# Altium footprint library 2020-03-29_19-02-12.PcbLib: 3 footprints
Each footprint in its own frame and in the unit in brackets; x right, y up, seen from the top. Pads: shape width x height; smd on the part's side, far side on the other; paste and mask are expansions set on the pad; w line width, h text height; cw(c..) or ccw(c..) is an arc to the next point about the centre after c.
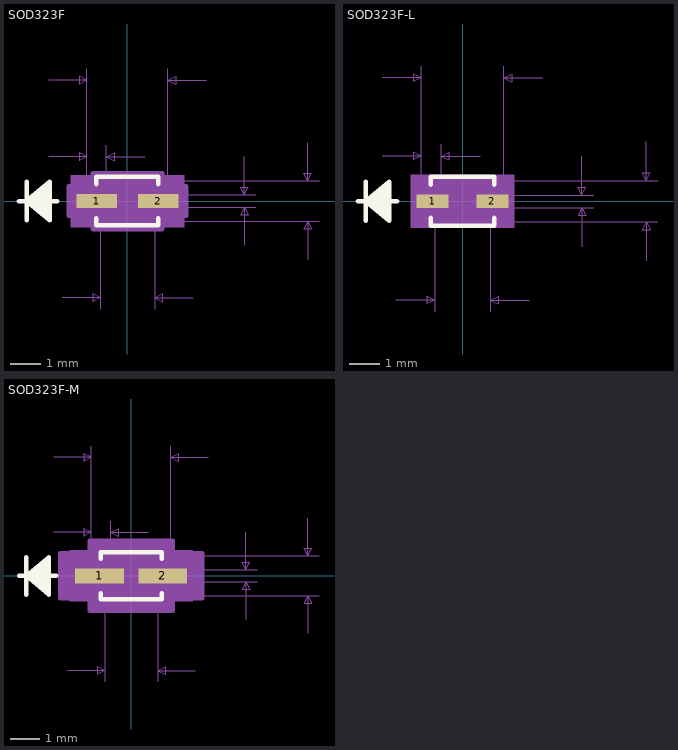
[diagram p0: the footprints below, top view; thin cyan lines are the x and y axes]

## SOD323F [mm]
pads (2):
  rect 1.348x0.466 smd paste+0 mask+0: 1(-1.022,0) 2(1.022,0)
Top Overlay:
  lines w0.152: -3.601,0 -2.331,0 ; -3.347,-0.635 -3.347,0.635 ; -2.585,-0.508 -3.347,0 ; -2.585,-0.381 -3.347,0 ; -2.585,-0.254 -3.347,0 ; -2.585,-0.127 -3.347,0 ; -2.585,0.127 -3.347,0 ; -2.585,0.254 -3.347,0 ; -2.585,0.381 -3.347,0 ; -2.585,0.508 -3.347,0 ; -1.029,-0.566 -1.029,-0.8 1.029,-0.8 1.029,-0.566 ; -1.029,0.566 -1.029,0.8 1.029,0.8 1.029,0.566 ; -3.347,0 -2.585,0.635 -2.585,-0.635 -3.347,0
Mechanical 5:
  region: 1.887,-0.864 -1.887,-0.864 -1.887,0.864 1.887,0.864
Mechanical 7:
  lines w0.025: -2.616,1.473 -1.346,1.473 ; -2.616,4.013 -1.346,4.013 ; -2.172,-3.213 -0.902,-3.213 ; -1.346,1.854 -1.346,0 -1.346,4.394 ; -0.902,-3.594 -0.902,0 ; -0.699,0 -0.699,1.854 ; 0,-0.673 6.363,-0.673 ; 0,0.673 6.363,0.673 ; 0.572,1.473 -0.699,1.473 ; 0.902,-3.594 0.902,0 ; 1.346,-0.203 4.267,-0.203 ; 1.346,0 1.346,4.394 ; 1.346,0.203 4.267,0.203 ; 2.172,-3.213 0.902,-3.213 ; 2.616,4.013 1.346,4.013 ; 3.886,-1.473 3.886,-0.203 ; 3.886,1.473 3.886,0.203 ; 5.982,-1.943 5.982,-0.673 ; 5.982,1.943 5.982,0.673 ; -1.346,1.473 -1.6,1.6 -1.6,1.346 -1.346,1.473 ; -1.346,4.013 -1.6,4.14 -1.6,3.886 -1.346,4.013 ; -0.902,-3.213 -1.156,-3.086 -1.156,-3.34 -0.902,-3.213 ; -0.699,1.473 -0.445,1.6 -0.445,1.346 -0.699,1.473 ; 0.902,-3.213 1.156,-3.086 1.156,-3.34 0.902,-3.213 ; 1.346,4.013 1.6,4.14 1.6,3.886 1.346,4.013 ; 3.886,-0.203 3.759,-0.457 4.013,-0.457 3.886,-0.203 ; 3.886,0.203 3.759,0.457 4.013,0.457 3.886,0.203 ; 5.982,-0.673 5.855,-0.927 6.109,-0.927 5.982,-0.673 ; 5.982,0.673 5.855,0.927 6.109,0.927 5.982,0.673
  text "Default Padstyle: r135_47" at -7.938,-8.488 h1.27
  text "Alt 1 Padstyle: b152_229h76" at -8.572,-10.393 h1.27
  text "Alt 2 Padstyle: b229_152h76" at -8.572,-12.298 h1.27
  text "0.106in/2.692mm" at -2.381,4.521 h0.64
  text "0.018in/0.457mm" at -3.404,1.981 h0.64
  text "0.016in/0.406mm" at 4.394,-0.318 h0.64
  text "0.053in/1.346mm" at 6.49,-0.318 h0.64
  text "0.071in/1.803mm" at -2.381,-4.356 h0.64
Mechanical 13:
  lines w0.025: -3.601,0 -2.331,0 ; -3.347,-0.635 -3.347,0.635 ; -2.585,-0.508 -3.347,0 ; -2.585,-0.381 -3.347,0 ; -2.585,-0.254 -3.347,0 ; -2.585,-0.127 -3.347,0 ; -2.585,0.127 -3.347,0 ; -2.585,0.254 -3.347,0 ; -2.585,0.381 -3.347,0 ; -2.585,0.508 -3.347,0 ; -0.902,-0.337 -0.565,-0.673 ; -0.902,0.337 -0.565,0.673 ; -3.347,0 -2.585,0.635 -2.585,-0.635 -3.347,0 ; -1.346,-0.203 -1.346,0.203 -0.902,0.203 -0.902,-0.203 -1.346,-0.203 ; -0.902,-0.673 0.902,-0.673 0.902,0.673 -0.902,0.673 -0.902,-0.673 ; 0.902,-0.203 0.902,0.203 1.346,0.203 1.346,-0.203 0.902,-0.203
Mechanical 15:
  region: -1.156,-0.487 -1.95,-0.487 -1.95,0.487 -1.156,0.487 -1.156,0.927 1.156,0.927 1.156,0.487 1.95,0.487 1.95,-0.487 1.156,-0.487 1.156,-0.927 -1.156,-0.927
  lines w0.152: -1.95,-0.487 -1.95,0.487 -1.156,0.487 -1.156,0.927 1.156,0.927 1.156,0.487 1.95,0.487 1.95,-0.487 1.156,-0.487 1.156,-0.927 -1.156,-0.927 -1.156,-0.487 -1.95,-0.487
3D body: height 0.25, standoff 0, extent 0,0 0.254,0.254

## SOD323F-L [mm]
pads (2):
  rect 1.048x0.426 smd paste+0 mask+0: 1(-0.972,0) 2(0.972,0)
Top Overlay:
  lines w0.152: -3.401,0 -2.131,0 ; -3.147,-0.635 -3.147,0.635 ; -2.385,-0.508 -3.147,0 ; -2.385,-0.381 -3.147,0 ; -2.385,-0.254 -3.147,0 ; -2.385,-0.127 -3.147,0 ; -2.385,0.127 -3.147,0 ; -2.385,0.254 -3.147,0 ; -2.385,0.381 -3.147,0 ; -2.385,0.508 -3.147,0 ; -1.029,-0.546 -1.029,-0.8 1.029,-0.8 1.029,-0.546 ; -1.029,0.546 -1.029,0.8 1.029,0.8 1.029,0.546 ; -3.147,0 -2.385,0.635 -2.385,-0.635 -3.147,0
Mechanical 5:
  region: 1.687,-0.864 -1.687,-0.864 -1.687,0.864 1.687,0.864
Mechanical 7:
  lines w0.025: -2.616,1.473 -1.346,1.473 ; -2.616,4.013 -1.346,4.013 ; -2.172,-3.213 -0.902,-3.213 ; -1.346,1.854 -1.346,0 -1.346,4.394 ; -0.902,-3.594 -0.902,0 ; -0.699,0 -0.699,1.854 ; 0,-0.673 6.363,-0.673 ; 0,0.673 6.363,0.673 ; 0.572,1.473 -0.699,1.473 ; 0.902,-3.594 0.902,0 ; 1.346,-0.203 4.267,-0.203 ; 1.346,0 1.346,4.394 ; 1.346,0.203 4.267,0.203 ; 2.172,-3.213 0.902,-3.213 ; 2.616,4.013 1.346,4.013 ; 3.886,-1.473 3.886,-0.203 ; 3.886,1.473 3.886,0.203 ; 5.982,-1.943 5.982,-0.673 ; 5.982,1.943 5.982,0.673 ; -1.346,1.473 -1.6,1.6 -1.6,1.346 -1.346,1.473 ; -1.346,4.013 -1.6,4.14 -1.6,3.886 -1.346,4.013 ; -0.902,-3.213 -1.156,-3.086 -1.156,-3.34 -0.902,-3.213 ; -0.699,1.473 -0.445,1.6 -0.445,1.346 -0.699,1.473 ; 0.902,-3.213 1.156,-3.086 1.156,-3.34 0.902,-3.213 ; 1.346,4.013 1.6,4.14 1.6,3.886 1.346,4.013 ; 3.886,-0.203 3.759,-0.457 4.013,-0.457 3.886,-0.203 ; 3.886,0.203 3.759,0.457 4.013,0.457 3.886,0.203 ; 5.982,-0.673 5.855,-0.927 6.109,-0.927 5.982,-0.673 ; 5.982,0.673 5.855,0.927 6.109,0.927 5.982,0.673
  text "Default Padstyle: r105_43" at -7.938,-8.468 h1.27
  text "Alt 1 Padstyle: b152_229h76" at -8.572,-10.373 h1.27
  text "Alt 2 Padstyle: b229_152h76" at -8.572,-12.278 h1.27
  text "0.106in/2.692mm" at -2.381,4.521 h0.64
  text "0.018in/0.457mm" at -3.404,1.981 h0.64
  text "0.016in/0.406mm" at 4.394,-0.318 h0.64
  text "0.053in/1.346mm" at 6.49,-0.318 h0.64
  text "0.071in/1.803mm" at -2.381,-4.356 h0.64
Mechanical 13:
  lines w0.025: -3.401,0 -2.131,0 ; -3.147,-0.635 -3.147,0.635 ; -2.385,-0.508 -3.147,0 ; -2.385,-0.381 -3.147,0 ; -2.385,-0.254 -3.147,0 ; -2.385,-0.127 -3.147,0 ; -2.385,0.127 -3.147,0 ; -2.385,0.254 -3.147,0 ; -2.385,0.381 -3.147,0 ; -2.385,0.508 -3.147,0 ; -0.902,-0.337 -0.565,-0.673 ; -0.902,0.337 -0.565,0.673 ; -3.147,0 -2.385,0.635 -2.385,-0.635 -3.147,0 ; -1.346,-0.203 -1.346,0.203 -0.902,0.203 -0.902,-0.203 -1.346,-0.203 ; -0.902,-0.673 0.902,-0.673 0.902,0.673 -0.902,0.673 -0.902,-0.673 ; 0.902,-0.203 0.902,0.203 1.346,0.203 1.346,-0.203 0.902,-0.203
Mechanical 15:
  region: -1.003,-0.315 -1.598,-0.315 -1.598,0.315 -1.003,0.315 -1.003,0.775 1.003,0.775 1.003,0.315 1.598,0.315 1.598,-0.315 1.003,-0.315 1.003,-0.775 -1.003,-0.775
  lines w0.152: -1.598,-0.315 -1.598,0.315 -1.003,0.315 -1.003,0.775 1.003,0.775 1.003,0.315 1.598,0.315 1.598,-0.315 1.003,-0.315 1.003,-0.775 -1.003,-0.775 -1.003,-0.315 -1.598,-0.315
3D body: height 0.25, standoff 0, extent 0,0 0.254,0.254

## SOD323F-M [mm]
pads (2):
  rect 1.648x0.506 smd paste+0 mask+0: 1(-1.072,0) 2(1.072,0)
Top Overlay:
  lines w0.152: -3.801,0 -2.531,0 ; -3.547,-0.635 -3.547,0.635 ; -2.785,-0.508 -3.547,0 ; -2.785,-0.381 -3.547,0 ; -2.785,-0.254 -3.547,0 ; -2.785,-0.127 -3.547,0 ; -2.785,0.127 -3.547,0 ; -2.785,0.254 -3.547,0 ; -2.785,0.381 -3.547,0 ; -2.785,0.508 -3.547,0 ; -1.029,-0.586 -1.029,-0.8 1.029,-0.8 1.029,-0.586 ; -1.029,0.586 -1.029,0.8 1.029,0.8 1.029,0.586 ; -3.547,0 -2.785,0.635 -2.785,-0.635 -3.547,0
Mechanical 5:
  region: 2.087,-0.864 -2.087,-0.864 -2.087,0.864 2.087,0.864
Mechanical 7:
  lines w0.025: -2.616,1.473 -1.346,1.473 ; -2.616,4.013 -1.346,4.013 ; -2.172,-3.213 -0.902,-3.213 ; -1.346,1.854 -1.346,0 -1.346,4.394 ; -0.902,-3.594 -0.902,0 ; -0.699,0 -0.699,1.854 ; 0,-0.673 6.363,-0.673 ; 0,0.673 6.363,0.673 ; 0.572,1.473 -0.699,1.473 ; 0.902,-3.594 0.902,0 ; 1.346,-0.203 4.267,-0.203 ; 1.346,0 1.346,4.394 ; 1.346,0.203 4.267,0.203 ; 2.172,-3.213 0.902,-3.213 ; 2.616,4.013 1.346,4.013 ; 3.886,-1.473 3.886,-0.203 ; 3.886,1.473 3.886,0.203 ; 5.982,-1.943 5.982,-0.673 ; 5.982,1.943 5.982,0.673 ; -1.346,1.473 -1.6,1.6 -1.6,1.346 -1.346,1.473 ; -1.346,4.013 -1.6,4.14 -1.6,3.886 -1.346,4.013 ; -0.902,-3.213 -1.156,-3.086 -1.156,-3.34 -0.902,-3.213 ; -0.699,1.473 -0.445,1.6 -0.445,1.346 -0.699,1.473 ; 0.902,-3.213 1.156,-3.086 1.156,-3.34 0.902,-3.213 ; 1.346,4.013 1.6,4.14 1.6,3.886 1.346,4.013 ; 3.886,-0.203 3.759,-0.457 4.013,-0.457 3.886,-0.203 ; 3.886,0.203 3.759,0.457 4.013,0.457 3.886,0.203 ; 5.982,-0.673 5.855,-0.927 6.109,-0.927 5.982,-0.673 ; 5.982,0.673 5.855,0.927 6.109,0.927 5.982,0.673
  text "Default Padstyle: r165_51" at -7.938,-8.508 h1.27
  text "Alt 1 Padstyle: b152_229h76" at -8.572,-10.413 h1.27
  text "Alt 2 Padstyle: b229_152h76" at -8.572,-12.318 h1.27
  text "0.106in/2.692mm" at -2.381,4.521 h0.64
  text "0.018in/0.457mm" at -3.404,1.981 h0.64
  text "0.016in/0.406mm" at 4.394,-0.318 h0.64
  text "0.053in/1.346mm" at 6.49,-0.318 h0.64
  text "0.071in/1.803mm" at -2.381,-4.356 h0.64
Mechanical 13:
  lines w0.025: -3.801,0 -2.531,0 ; -3.547,-0.635 -3.547,0.635 ; -2.785,-0.508 -3.547,0 ; -2.785,-0.381 -3.547,0 ; -2.785,-0.254 -3.547,0 ; -2.785,-0.127 -3.547,0 ; -2.785,0.127 -3.547,0 ; -2.785,0.254 -3.547,0 ; -2.785,0.381 -3.547,0 ; -2.785,0.508 -3.547,0 ; -0.902,-0.337 -0.565,-0.673 ; -0.902,0.337 -0.565,0.673 ; -3.547,0 -2.785,0.635 -2.785,-0.635 -3.547,0 ; -1.346,-0.203 -1.346,0.203 -0.902,0.203 -0.902,-0.203 -1.346,-0.203 ; -0.902,-0.673 0.902,-0.673 0.902,0.673 -0.902,0.673 -0.902,-0.673 ; 0.902,-0.203 0.902,0.203 1.346,0.203 1.346,-0.203 0.902,-0.203
Mechanical 15:
  region: -1.41,-0.761 -2.404,-0.761 -2.404,0.761 -1.41,0.761 -1.41,1.181 1.41,1.181 1.41,0.761 2.404,0.761 2.404,-0.761 1.41,-0.761 1.41,-1.181 -1.41,-1.181
  lines w0.152: -2.404,-0.761 -2.404,0.761 -1.41,0.761 -1.41,1.181 1.41,1.181 1.41,0.761 2.404,0.761 2.404,-0.761 1.41,-0.761 1.41,-1.181 -1.41,-1.181 -1.41,-0.761 -2.404,-0.761
3D body: height 0.25, standoff 0, extent 0,0 0.254,0.254